# EAGLE library part TPS63020 (library ti)
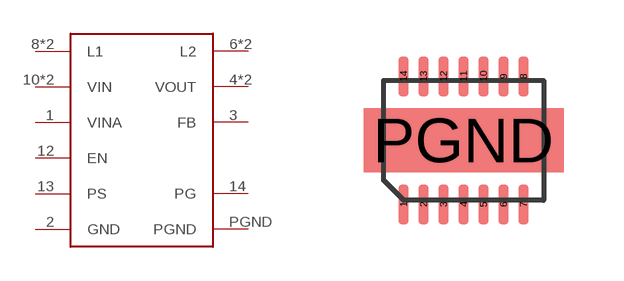
[diagram p15: symbol with the pads of R-PVSON-N14; footprint R-PVSON-N14]

Designator prefix -

## TPS63020  [R-PVSON-N14]
1  VINA
2  GND
3  FB
4  VOUT
5  VOUT
6  L2
7  L2
8  L1
9  L1
10  VIN
11  VIN
12  EN
13  PS
14  PG
PGND  PGND

## Footprint R-PVSON-N14 (pad centres in mm)
smd 0.25 x 1: 1 -1.5,-1.6; 2 -1,-1.6; 3 -0.5,-1.6; 4 0,-1.6; 5 0.5,-1.6; 6 1,-1.6; 7 1.5,-1.6; 8 1.5,1.6; 9 1,1.6; 10 0.5,1.6; 11 0,1.6; 12 -0.5,1.6; 13 -1,1.6; 14 -1.5,1.6
smd 5 x 1.6: PGND 0,0